# Altium footprint library Capacitor.PcbLib: 60 footprints (part 2 of 4)
Each footprint in its own frame and in the unit in brackets; x right, y up, seen from the top. Pads: shape width x height; smd on the part's side, far side on the other; paste and mask are expansions set on the pad; w line width, h text height; cw(c..) or ccw(c..) is an arc to the next point about the centre after c.
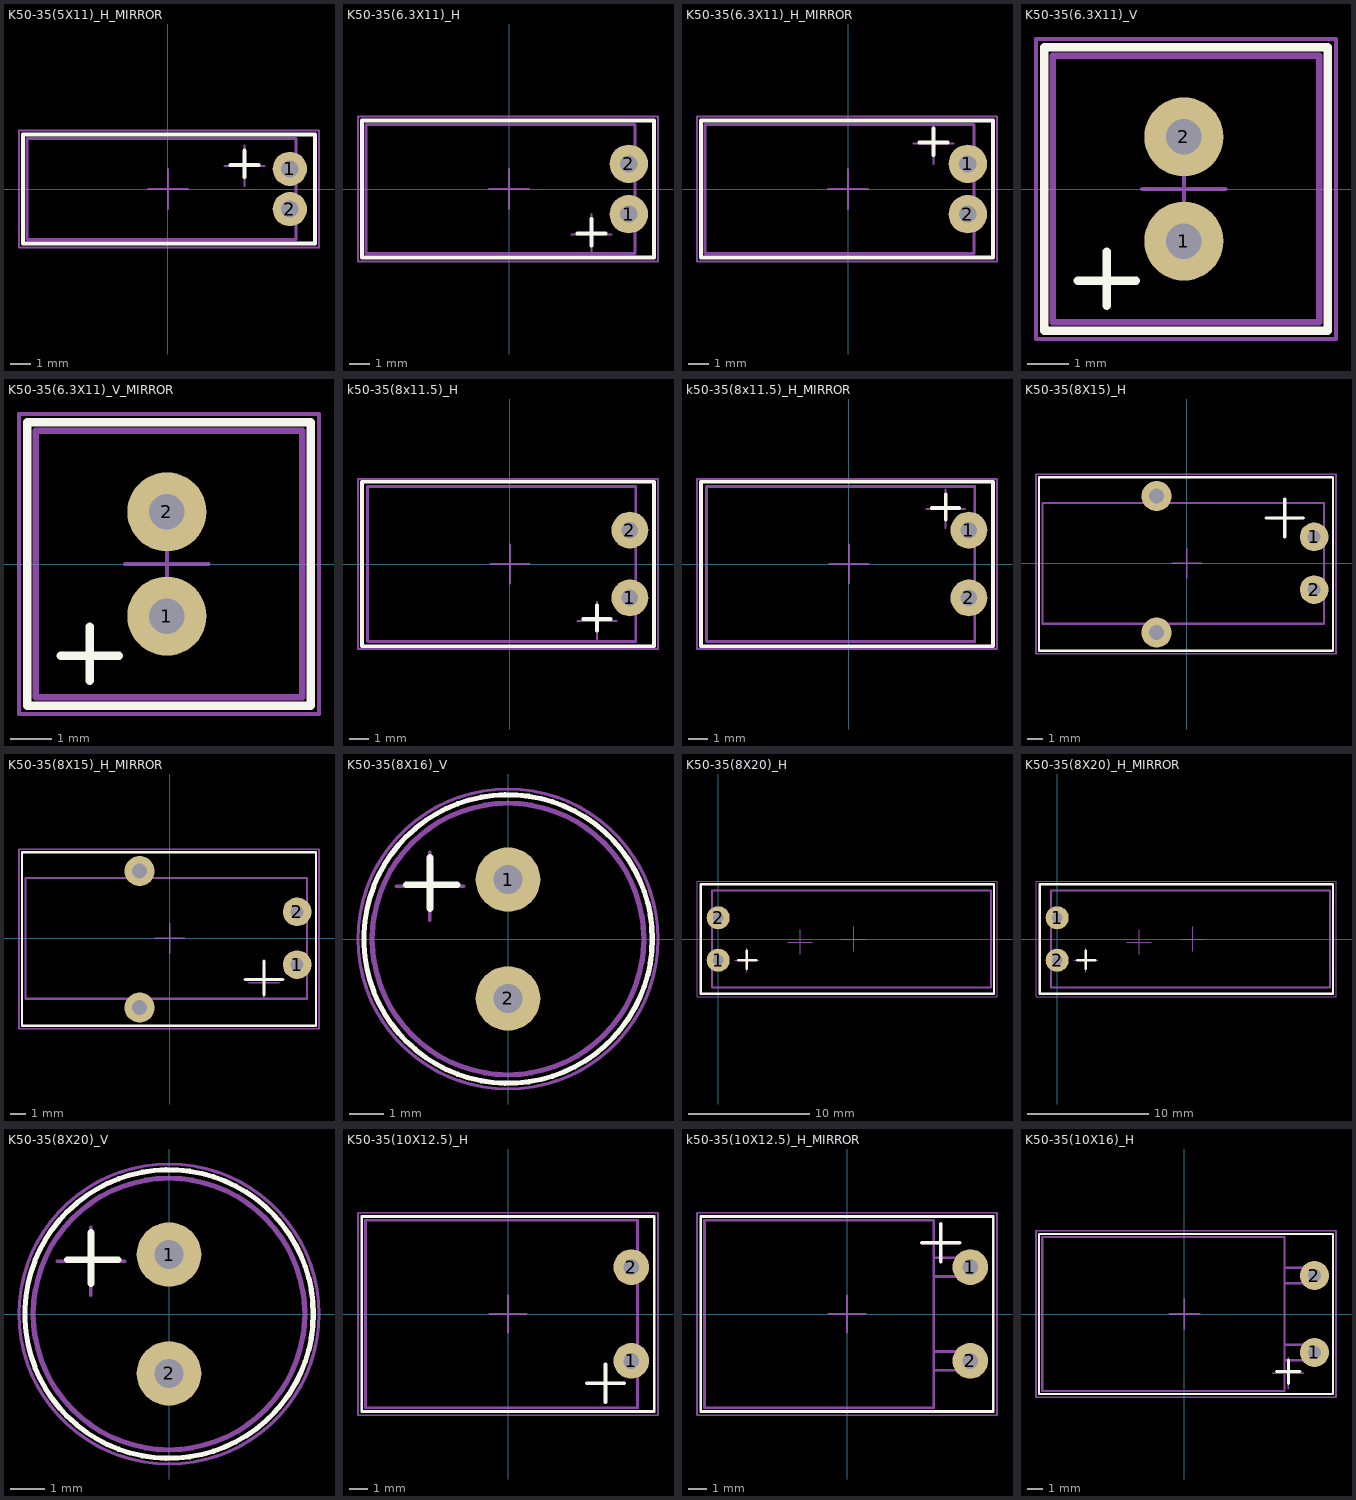
[diagram p1: the footprints below, top view; thin cyan lines are the x and y axes]

## K50-35(5X11)_H_MIRROR [mm]
pads (2):
  round 1.7 hole 0.85 mask+0.102: 1(6.05,1)
  round 1.7 hole 0.85: 2(6.05,-1)
Top Overlay:
  lines w0.2: 3.1,1.2 4.5,1.2 ; 3.8,0.6 3.8,1.9 ; -7.2,-2.7 -7.2,2.7 7.3,2.7 7.3,-2.7 -7.2,-2.7
Bottom Overlay:
  lines w0.2: 3.1,1.2 4.5,1.2 ; 3.8,0.5 3.8,1.9
Mechanical 7:
  lines w0.1: 2.8,1.15 4.8,1.15 ; 3.8,0.15 3.8,2.15
  lines w0.15: -7,-2.5 6.35,-2.5 6.35,2.5 -7,2.5 -7,-2.5
Mechanical 9:
  text ".Designator" at 8,1 h3
Mechanical 10:
  text ".Comment" at 7.7,-1.2 h2
Mechanical 15:
  lines w0.1: -1,0 1,0 ; 0,-1 0,1 ; -7.4,-2.9 -7.4,2.9 7.5,2.9 7.5,-2.9 -7.4,-2.9
3D body "User Library-Cap electro 5x11x2mm RA.STEP": height 6.03, standoff -2.5, extent -6.925,-2.525 6.396,2.526

## K50-35(6.3X11)_H [mm]
pads (2):
  round 1.9 hole 0.85: 1(5.95,-1.25)
  round 1.9 hole 0.85 mask+0.102: 2(5.95,1.25)
Top Overlay:
  lines w0.2: 3.4,-2.2 4.8,-2.2 ; 4.1,-2.8 4.1,-1.5 ; -7.3,-3.4 -7.3,3.4 7.2,3.4 7.2,-3.4 -7.3,-3.4
Mechanical 7:
  lines w0.1: 3.1,-2.25 5.1,-2.25 ; 4.1,-3.25 4.1,-1.25
  lines w0.15: -7.1,-3.2 -7.1,3.2 6.25,3.2 6.25,-3.2 -7.1,-3.2
Mechanical 9:
  text ".Designator" at 7.95,1 h3
Mechanical 10:
  text ".Comment" at 8,-1.2 h2
Mechanical 15:
  lines w0.1: -1,0 1,0 ; 0,-1 0,1 ; -7.5,-3.6 -7.5,3.6 7.4,3.6 7.4,-3.6 -7.5,-3.6
3D body "User Library-Cap electro 6_3x11x2_5mm RA.step": height 6.68, standoff -2.5, extent -7.075,-3.175 6.245,3.176

## K50-35(6.3X11)_H_MIRROR [mm]
pads (2):
  round 1.9 hole 0.85 mask+0.102: 1(5.95,1.25)
  round 1.9 hole 0.85: 2(5.95,-1.25)
Top Overlay:
  lines w0.2: 3.55,2.3 4.95,2.3 ; 4.25,1.7 4.25,3 ; -7.3,-3.4 -7.3,3.4 7.2,3.4 7.2,-3.4 -7.3,-3.4
Mechanical 7:
  lines w0.1: 3.25,2.25 5.25,2.25 ; 4.25,1.25 4.25,3.25
  lines w0.15: -7.1,-3.2 -7.1,3.2 6.25,3.2 6.25,-3.2 -7.1,-3.2
Mechanical 9:
  text ".Designator" at 8.2,1 h3
Mechanical 10:
  text ".Comment" at 8.1,-1 h2
Mechanical 15:
  lines w0.1: -1,0 1,0 ; 0,-1 0,1 ; -7.5,-3.6 -7.5,3.6 7.4,3.6 7.4,-3.6 -7.5,-3.6
3D body "User Library-Cap electro 6_3x11x2_5mm RA.step": height 6.68, standoff -2.5, extent -7.075,-3.175 6.245,3.176

## K50-35(6.3X11)_V [mm]
pads (2):
  round 1.9 hole 0.85: 1(5.95,-1.25)
  round 1.9 hole 0.85 mask+0.102: 2(5.95,1.25)
Top Overlay:
  lines w0.2: 3.4,-2.2 4.8,-2.2 ; 4.1,-2.8 4.1,-1.5 ; 2.6,-3.4 2.6,3.4 9.4,3.4 9.4,-3.4 2.6,-3.4
Mechanical 7:
  lines w0.1: 3.4,-2.2 4.8,-2.2 ; 4.1,-2.8 4.1,-1.5
  lines w0.15: 2.8,-3.2 2.8,3.2 9.2,3.2 9.2,-3.2 2.8,-3.2
Mechanical 9:
  text ".Designator" at 9.75,0.7 h3
Mechanical 10:
  text ".Comment" at 9.8,-1.5 h2
Mechanical 15:
  lines w0.1: 4.95,0 6.95,0 ; 5.95,-1 5.95,1 ; 2.4,-3.6 2.4,3.6 9.6,3.6 9.6,-3.6 2.4,-3.6
3D body "User Library-Cap electro 6_3x11x2_5mm.step": height 11.53, standoff -3.01, extent 2.775,-3.175 9.125,3.176

## K50-35(6.3X11)_V_MIRROR [mm]
pads (2):
  round 1.9 hole 0.85: 1(5.95,-1.25)
  round 1.9 hole 0.85 mask+0.102: 2(5.95,1.25)
Top Overlay:
  lines w0.2: 3.4,-2.2 4.8,-2.2 ; 4.1,-2.8 4.1,-1.5 ; 2.6,-3.4 9.4,-3.4 9.4,3.4 2.6,3.4 2.6,-3.4
Mechanical 7:
  lines w0.1: 3.4,-2.2 4.8,-2.2 ; 4.1,-2.8 4.1,-1.5
  lines w0.15: 2.8,-3.2 9.2,-3.2 9.2,3.2 2.8,3.2 2.8,-3.2
Mechanical 9:
  text ".Designator" at 9.75,0.7 h3
Mechanical 10:
  text ".Comment" at 9.8,-1.5 h2
Mechanical 15:
  lines w0.1: 4.95,0 6.95,0 ; 5.95,-1 5.95,1 ; 2.4,-3.6 9.6,-3.6 9.6,3.6 2.4,3.6 2.4,-3.6
3D body "User Library-Cap electro 6_3x11x2_5mm.step": height 11.53, standoff -3.01, extent 2.775,-3.175 9.125,3.176

## k50-35(8x11.5)_H [mm]
pads (2):
  round 1.9 hole 0.85: 1(6.2,-1.75)
  round 1.9 hole 0.85 mask+0.102: 2(6.2,1.75)
Top Overlay:
  lines w0.2: 3.8,-2.85 5.2,-2.85 ; 4.5,-3.45 4.5,-2.15 ; -7.65,-4.25 7.45,-4.25 7.45,4.25 -7.65,4.25 -7.65,-4.25
Mechanical 7:
  lines w0.1: 3.5,-2.95 5.5,-2.95 ; 4.5,-3.95 4.5,-1.95
  lines w0.15: -7.35,-4.01 -7.35,4 6.5,4 6.5,-4.01 -7.35,-4.01
Mechanical 9:
  text ".Designator" at 8.2,2 h3
Mechanical 10:
  text ".Comment" at 8.2,-0.1 h2
Mechanical 15:
  lines w0.1: -1,0 1,0 ; 0,-1 0,1 ; -7.85,-4.4 7.65,-4.4 7.65,4.4 -7.85,4.4 -7.85,-4.4
3D body "User Library-Cap electro 8x11_5x3_5mm RA.step": height 12.03, standoff 2, extent -7.325,-4.025 6.495,4.026

## k50-35(8x11.5)_H_MIRROR [mm]
pads (2):
  round 1.9 hole 0.85 mask+0.102: 1(6.2,1.75)
  round 1.9 hole 0.85: 2(6.2,-1.75)
Top Overlay:
  lines w0.2: 4.3,2.9 5.7,2.9 ; 5,2.3 5,3.6 ; -7.65,-4.25 7.45,-4.25 7.45,4.25 -7.65,4.25 -7.65,-4.25
Mechanical 7:
  lines w0.1: 4,2.85 6,2.85 ; 5,1.85 5,3.85
  lines w0.15: -7.35,-4.01 -7.35,4 6.5,4 6.5,-4.01 -7.35,-4.01
Mechanical 9:
  text ".Designator" at 8.2,2 h3
Mechanical 10:
  text ".Comment" at 8.4,-0.2 h2
Mechanical 15:
  lines w0.1: -1,0 1,0 ; 0,-1 0,1 ; -7.85,-4.4 7.65,-4.4 7.65,4.4 -7.85,4.4 -7.85,-4.4
3D body "User Library-Cap electro 8x11_5x3_5mm RA.step": height 12.03, standoff 2, extent -7.325,-4.025 6.495,4.026

## K50-35(8X15)_H [mm]
pads (4):
  round 1.9 hole 0.85 mask+0.102: 1(8.45,1.75)
  round 1.9 hole 0.85: 2(8.45,-1.75)
  round 2 hole 1 mask+0.102: ""(-2,-4.6) ""(-2,4.45)
Top Overlay:
  lines w0.15: -9.8,-5.8 -9.8,5.7 9.7,5.7 9.7,-5.8 -9.8,-5.8
  lines w0.2: 5.25,3 7.75,3 ; 6.5,1.75 6.5,4.25
Mechanical 7:
  lines w0.1: 5.5,2.95 7.5,2.95 ; 6.5,1.95 6.5,3.95
  lines w0.15: -9.563,-4.01 9.1,-4.01 9.1,4 -9.563,4 -9.563,-4.01
Mechanical 9:
  text ".Designator" at 10.7,1 h3
Mechanical 10:
  text ".Comment" at 10.7,-1 h2
Mechanical 15:
  lines w0.1: -1,0 1,0 ; 0,-1 0,1 ; -10,-6 -10,5.9 9.9,5.9 9.9,-6 -10,-6
3D body "User Library-CAPAER_D080_L150_P035_W006X030.STEP": height 8, standoff -1.22, extent -9.563,-4.01 9.076,4

## K50-35(8X15)_H_MIRROR [mm]
pads (4):
  round 1.9 hole 0.85: 1(8.45,-1.75)
  round 1.9 hole 0.85 mask+0.102: 2(8.45,1.75)
  round 2 hole 1 mask+0.102: ""(-2,-4.6) ""(-2,4.45)
Top Overlay:
  lines w0.15: -9.8,-5.8 9.7,-5.8 9.7,5.7 -9.8,5.7 -9.8,-5.8
  lines w0.2: 5,-2.75 7.5,-2.75 ; 6.25,-3.75 6.25,-1.5
Mechanical 7:
  lines w0.1: 5.25,-2.95 7.25,-2.95 ; 6.25,-3.95 6.25,-1.95
  lines w0.15: -9.563,-4.01 -9.563,4 9.1,4 9.1,-4.01 -9.563,-4.01
Mechanical 9:
  text ".Designator" at 10.7,1 h3
Mechanical 10:
  text ".Comment" at 11,-1.1 h2
Mechanical 15:
  lines w0.1: -1,0 1,0 ; 0,-1 0,1 ; -10,-6 9.9,-6 9.9,5.9 -10,5.9 -10,-6
3D body "User Library-CAPAER_D080_L150_P035_W006X030.STEP": height 8, standoff -1.22, extent -9.563,-4.01 9.076,4

## K50-35(8X16)_V [mm]
pads (2):
  round 1.9 hole 0.85 mask+0.102: 1(0,1.75)
  round 1.9 hole 0.85: 2(0,-1.75)
Top Overlay:
  circle w0.15: c0,0 r4.25
  lines w0.2: -3,1.6 -1.5,1.6 ; -2.3,0.9 -2.3,2.4
Mechanical 7:
  circle w0.15: c0,0 r4
  lines w0.1: -3.3,1.55 -1.3,1.55 ; -2.3,0.55 -2.3,2.55
Mechanical 9:
  text ".Designator" at 5.2,1.45 h3
Mechanical 10:
  text ".Comment" at 5.4,-0.7 h2
Mechanical 15:
  circle w0.1: c0,0 r4.418
3D body "User Library-Cap-EL(8x16-3_5).STEP": height 16, standoff -3.3, extent -4,-4.002 4,4

## K50-35(8X20)_H [mm]
pads (2):
  round 1.9 hole 0.85: 1(0,-1.75)
  round 1.9 hole 0.85 mask+0.102: 2(0,1.75)
Top Overlay:
  lines w0.2: 1.65,-1.75 3.15,-1.75 ; 2.35,-2.45 2.35,-0.95 ; -1.45,-4.5 22.75,-4.5 22.75,4.5 -1.45,4.5 -1.45,-4.5
Bottom Overlay:
  lines w0.2: 1.65,-1.75 3.05,-1.75 ; 2.35,-2.45 2.35,-1.05
Mechanical 7:
  lines w0.1: 1.35,-1.75 3.35,-1.75 ; 2.35,-2.75 2.35,-0.75 ; 10.2,0 12.2,0 ; 11.2,-1 11.2,1
  lines w0.15: -0.5,-4 -0.5,4 22.5,4 22.5,-4 -0.5,-4
Mechanical 9:
  text ".Designator" at 5.2,1.45 h3
Mechanical 10:
  text ".Comment" at 5.3,-0.7 h2
Mechanical 15:
  lines w0.1: 5.75,-0.25 7.75,-0.25 ; 6.75,-1.25 6.75,0.75 ; -1.75,-4.75 23,-4.75 23,4.75 -1.75,4.75 -1.75,-4.75
3D body "User Library-CAPAER_D080_L200_P035_W006X030.STEP": height 8, standoff 0, extent -0.5,-4 22.513,4.01

## K50-35(8X20)_H_MIRROR [mm]
pads (2):
  round 1.9 hole 0.85 mask+0.102: 1(0,1.75)
  round 1.9 hole 0.85: 2(0,-1.75)
Top Overlay:
  lines w0.2: 1.65,-1.75 3.15,-1.75 ; 2.35,-2.45 2.35,-0.95 ; -1.45,-4.5 22.75,-4.5 22.75,4.5 -1.45,4.5 -1.45,-4.5
Bottom Overlay:
  lines w0.2: 1.65,-1.75 3.05,-1.75 ; 2.35,-2.45 2.35,-1.05
Mechanical 7:
  lines w0.1: 1.35,-1.75 3.35,-1.75 ; 2.35,-2.75 2.35,-0.75 ; 10.2,0 12.2,0 ; 11.2,-1 11.2,1
  lines w0.15: -0.5,-4 -0.5,4 22.5,4 22.5,-4 -0.5,-4
Mechanical 9:
  text ".Designator" at 5.2,1.45 h3
Mechanical 10:
  text ".Comment" at 5.3,-0.7 h2
Mechanical 15:
  lines w0.1: 5.75,-0.25 7.75,-0.25 ; 6.75,-1.25 6.75,0.75 ; -1.75,-4.75 23,-4.75 23,4.75 -1.75,4.75 -1.75,-4.75
3D body "User Library-CAPAER_D080_L200_P035_W006X030.STEP": height 8, standoff 0, extent -0.5,-4 22.513,4.01

## K50-35(8X20)_V [mm]
pads (2):
  round 1.9 hole 0.85 mask+0.102: 1(0,1.75)
  round 1.9 hole 0.85: 2(0,-1.75)
Top Overlay:
  circle w0.15: c0,0 r4.25
  lines w0.2: -3,1.6 -1.5,1.6 ; -2.3,0.9 -2.3,2.4
Mechanical 7:
  circle w0.15: c0,0 r4
  lines w0.1: -3.3,1.55 -1.3,1.55 ; -2.3,0.55 -2.3,2.55
Mechanical 9:
  text ".Designator" at 5.2,1.45 h3
Mechanical 10:
  text ".Comment" at 5.3,-0.7 h2
Mechanical 15:
  circle w0.1: c0,0 r4.418
3D body "User Library-CAPAER_D080_L200_P035_W006X030.STEP": height 20.01, standoff -3, extent -4,-4.01 4,4

## K50-35(10X12.5)_H [mm]
pads (2):
  round 1.9 hole 0.85: 1(6.575,-2.5)
  round 1.9 hole 0.85 mask+0.102: 2(6.575,2.5)
Top Overlay:
  lines w0.15: -7.8,-5.2 7.8,-5.2 7.8,5.2 -7.8,5.2 -7.8,-5.2
  lines w0.2: 4.2,-3.7 6.2,-3.7 ; 5.2,-4.7 5.2,-2.7
Mechanical 7:
  lines w0.1: 4.2,-3.75 6.2,-3.75 ; 5.2,-4.75 5.2,-2.75
  lines w0.15: -7.6,-5 -7.6,5 6.9,5 6.9,-5 -7.6,-5
Mechanical 9:
  text ".Designator" at 9,1.35 h3
Mechanical 10:
  text ".Comment" at 9.1,-0.8 h2
Mechanical 15:
  lines w0.1: -1,0 1,0 ; 0,-1 0,1 ; -8,-5.4 8,-5.4 8,5.4 -8,5.4 -8,-5.4
3D body "User Library-Cap electro 10x12_5x5_0mm RA.step": height 11.03, standoff -2.68, extent -7.6,-5.025 6.888,5.026

## k50-35(10X12.5)_H_MIRROR [mm]
pads (2):
  round 1.9 hole 0.85 mask+0.102: 1(6.575,2.5)
  round 1.9 hole 0.85: 2(6.575,-2.5)
Top Overlay:
  lines w0.15: -7.8,-5.2 -7.8,5.2 7.8,5.2 7.8,-5.2 -7.8,-5.2
  lines w0.2: 4,3.8 6,3.8 ; 5,2.8 5,4.8
Mechanical 7:
  lines w0.1: 4,3.75 6,3.75 ; 5,2.75 5,4.75
  lines w0.15: -7.6,-5 4.625,-5 4.625,5 -7.6,5 -7.6,-5
Mechanical 9:
  text ".Designator" at 9,1.35 h3
Mechanical 10:
  text ".Comment" at 9,-0.7 h2
Mechanical 11:
  lines w0.15: 4.625,-3 6.575,-3 6.575,-2 4.625,-2 ; 4.625,2 6.575,2 6.575,3 4.625,3
Mechanical 15:
  lines w0.1: -1,0 1,0 ; 0,-1 0,1 ; -8,-5.4 -8,5.4 8,5.4 8,-5.4 -8,-5.4
3D body "User Library-Cap electro 10x12_5x5_0mm RA.step": height 11.03, standoff -2.68, extent -7.6,-5.025 6.888,5.026

## K50-35(10X16)_H [mm]
pads (2):
  round 1.9 hole 0.85: 1(8.45,-2.5)
  round 1.9 hole 0.85 mask+0.102: 2(8.45,2.5)
Top Overlay:
  lines w0.15: -9.45,-5.2 9.65,-5.2 9.65,5.2 -9.45,5.2 -9.45,-5.2
  lines w0.2: 6,-3.75 7.5,-3.75 ; 6.75,-4.5 6.75,-3
Mechanical 7:
  lines w0.1: 5.75,-3.85 7.75,-3.85 ; 6.75,-4.85 6.75,-2.85
  lines w0.15: 6.5,-3 8.45,-3 8.45,-2 6.5,-2 ; 6.5,2 8.45,2 8.45,3 6.5,3 ; -9.25,-5 -9.25,5 6.5,5 6.5,-5 -9.25,-5
Mechanical 9:
  text ".Designator" at 10.5,1.6 h3
Mechanical 10:
  text ".Comment" at 10.9,-0.7 h2
Mechanical 15:
  lines w0.1: -1,0 1,0 ; 0,-1 0,1 ; -9.65,-5.4 -9.65,5.4 9.85,5.4 9.85,-5.4 -9.65,-5.4
3D body "User Library-Cap electro 10x16x5_0mm RA.step": height 11.03, standoff -2.68, extent -9.239,-5.025 8.75,5.026